# EAGLE library part TLV2764 (library TI)
TLV2764 - Micropower, Rail-to-Rail Input/Output Op-Amps with Shutdown Datasheet: http://www.ti.com/lit/ds/symlink/tlv2764.pdf
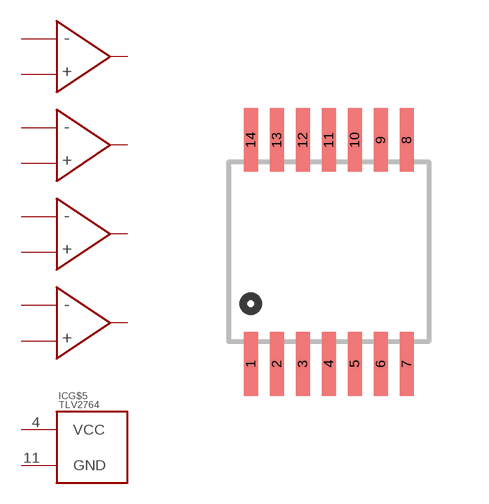
[diagram p15: symbol with the pads of PW_(R-PDSO-G14)_(TSSOP-14); footprint PW_(R-PDSO-G14)_(TSSOP-14)]

Designator prefix IC; gates G$1=OP-AMP G$2=OP-AMP G$3=OP-AMP G$4=OP-AMP G$5=VCC-GND

## TLV2764IPWR (PARTNO: TLV2764IPWR)  [PW_(R-PDSO-G14)_(TSSOP-14)]
1  G$1:OUT  out
2  G$1:IN-  in
3  G$1:IN+  in
4  G$5:VCC  pwr
5  G$2:IN+  in
6  G$2:IN-  in
7  G$2:OUT  out
8  G$3:OUT  out
9  G$3:IN-  in
10  G$3:IN+  in
11  G$5:GND  pwr
12  G$4:IN+  in
13  G$4:IN-  in
14  G$4:OUT  out

## Footprint PW_(R-PDSO-G14)_(TSSOP-14) (pad centres in mm)
PW (R-PDSO-G14) - aka TSSOP-14 from http://www.ti.com/lit/ds/symlink/tlv2764.pdf
smd 0.35 x 1.6: 1 -1.95,-2.8; 2 -1.3,-2.8; 3 -0.65,-2.8; 4 0,-2.8; 5 0.65,-2.8; 6 1.3,-2.8; 7 1.95,-2.8; 8 1.95,2.8; 9 1.3,2.8; 10 0.65,2.8; 11 0,2.8; 12 -0.65,2.8; 13 -1.3,2.8; 14 -1.95,2.8